# Altium footprint library 10103594-0001LF.PcbLib: 1 footprints
Each footprint in its own frame and in the unit in brackets; x right, y up, seen from the top. Pads: shape width x height; smd on the part's side, far side on the other; paste and mask are expansions set on the pad; w line width, h text height; cw(c..) or ccw(c..) is an arc to the next point about the centre after c.
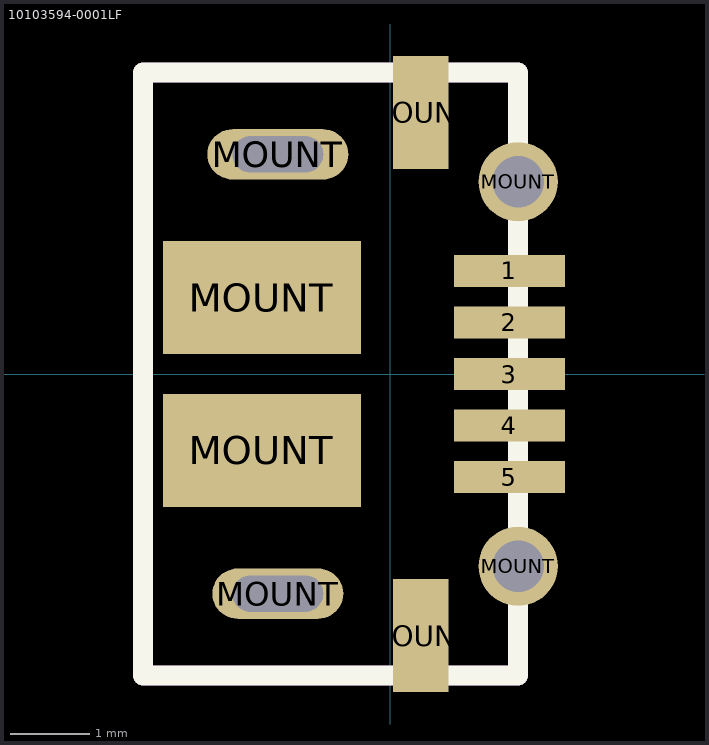
[diagram p0: the footprint, top view; thin cyan lines are the x and y axes]

## 10103594-0001LF [mm] "USB uB"
pads (13):
  rect 1.4x0.4 smd: 1(1.506,1.3) 2(1.506,0.65) 3(1.506,0) 4(1.506,-0.65) 5(1.506,-1.3)
  rect 2.5x1.425 smd: MOUNT(-1.615,-0.962) MOUNT(-1.615,0.962)
  oval 1.651x0.635 hole 0.457 slot 1.143 at 0 deg: MOUNT(-1.415,-2.77)
  oval 1.778x0.635 hole 0.457 slot 1.143 at 0 deg: MOUNT(-1.415,2.77)
  rect 0.7x1.425 smd: MOUNT(0.385,-3.3) MOUNT(0.385,3.3)
  round 1 hole 0.65: MOUNT(1.615,-2.425) MOUNT(1.615,2.425)
Top Overlay:
  lines w0.254: -3.115,-3.8 1.615,-3.8 1.615,3.8 -3.115,3.8 -3.115,-3.8
Mechanical 15:
  lines w0.254: -3.115,-3.8 -3.115,3.8 1.615,3.8 1.615,-3.8 -3.115,-3.8
3D body "10103594.stp": height 2.9, standoff -0.7, extent -4.227,-4.011 1.806,4.029